# EAGLE library part LED_DRIVER_ASSEMBLY_CHIP (library Parts)
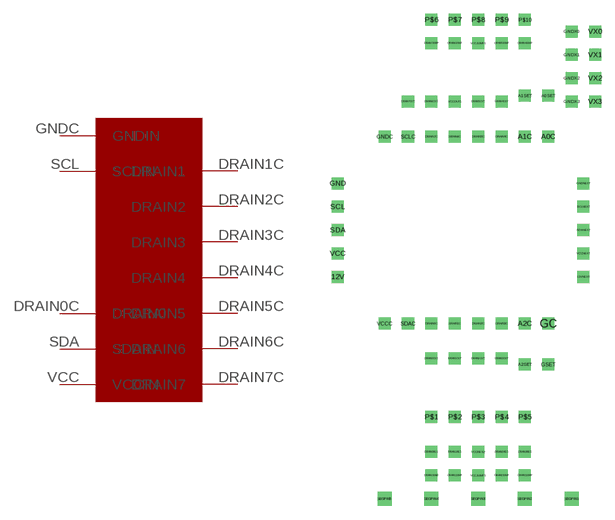
[diagram p5: symbol with the pads of LED_DRIVER_ASSEMBLY_CHIP; footprint LED_DRIVER_ASSEMBLY_CHIP]

Designator prefix -

## LED_DRIVER_ASSEMBLY_CHIP  [LED_DRIVER_ASSEMBLY_CHIP]
DRAIN0C  DRAIN0
DRAIN1C  DRAIN1
DRAIN2C  DRAIN2
DRAIN3C  DRAIN3
DRAIN4C  DRAIN4
DRAIN5C  DRAIN5
DRAIN6C  DRAIN6
DRAIN7C  DRAIN7
GNDC  GNDIN
SCL  SCLIN
SDA  SDAIN
VCC  VCCIN

## Footprint LED_DRIVER_ASSEMBLY_CHIP (pad centres in mm)
drill 0.8 square: 12V -12.7,-11.43; 12VNEXT 13.97,-11.43; A0C 10.16,3.81; A0SET 10.16,8.255; A1C 7.62,3.81; A1SET 7.62,8.255; A2C 7.62,-16.51; A2SET 7.62,-20.955; DRAIN0C -2.54,-16.51; DRAIN0JUMP -2.54,-33.02; DRAIN0OUT -2.54,-20.32; DRAIN0RES -2.54,-30.48; DRAIN1C 0,-16.51; DRAIN1JUMP 0,-33.02; DRAIN1OUT 0,-20.32; DRAIN1RES 0,-30.48; DRAIN2C 2.54,-16.51; DRAIN2JUMP 5.08,-33.02; DRAIN2OUT 2.54,-20.32; DRAIN2RES 5.08,-30.48; DRAIN3C 5.08,-16.51; DRAIN3JUMP 7.62,-33.02; DRAIN3OUT 5.08,-20.32; DRAIN3RES 7.62,-30.48; DRAIN4C 5.08,3.81; DRAIN4JUMP 7.62,13.97; DRAIN4OUT 5.08,7.62; DRAIN5C 2.54,3.81; DRAIN5JUMP 5.08,13.97; DRAIN5OUT 2.54,7.62; DRAIN6C 0,3.81; DRAIN6JUMP 0,13.97; DRAIN6OUT -2.54,7.62; DRAIN7C -2.54,3.81; DRAIN7JUMP -2.54,13.97; DRAIN7OUT -5.08,7.62; GC 10.16,-16.51; GND -12.7,-1.27; GNDC -7.62,3.81; GNDNEXT 13.97,-1.27; GNDX0 12.7,15.24; GNDX1 12.7,12.7; GNDX2 12.7,10.16; GNDX3 12.7,7.62; GSET 10.16,-20.955; P$1 -2.54,-26.67; P$2 0,-26.67; P$3 2.54,-26.67; P$4 5.08,-26.67; P$5 7.62,-26.67; P$6 -2.54,16.51; P$7 0,16.51; P$8 2.54,16.51; P$9 5.08,16.51; P$10 7.62,16.51; SCL -12.7,-3.81; SCLC -5.08,3.81; SCLNEXT 13.97,-3.81; SDA -12.7,-6.35; SDAC -5.08,-16.51; SDANEXT 13.97,-6.35; VCC -12.7,-8.89; VCCC -7.62,-16.51; VCCJUMP1 2.54,13.97; VCCJUMP2 2.54,-33.02; VCCNEXT 13.97,-8.89; VCCOUT1 0,7.62; VCCRES2 2.54,-30.48; VX0 15.24,15.24; VX1 15.24,12.7; VX2 15.24,10.16; VX3 15.24,7.62
drill 1 square: SEGPIN1 12.7,-35.56; SEGPIN2 7.62,-35.56; SEGPIN3 2.54,-35.56; SEGPIN4 -2.54,-35.56; SEGPIN5 -7.62,-35.56